# Altium footprint library stm32c8t6.PcbLib: 17 footprints (part 1 of 2)
Each footprint in its own frame and in the unit in brackets; x right, y up, seen from the top. Pads: shape width x height; smd on the part's side, far side on the other; paste and mask are expansions set on the pad; w line width, h text height; cw(c..) or ccw(c..) is an arc to the next point about the centre after c.
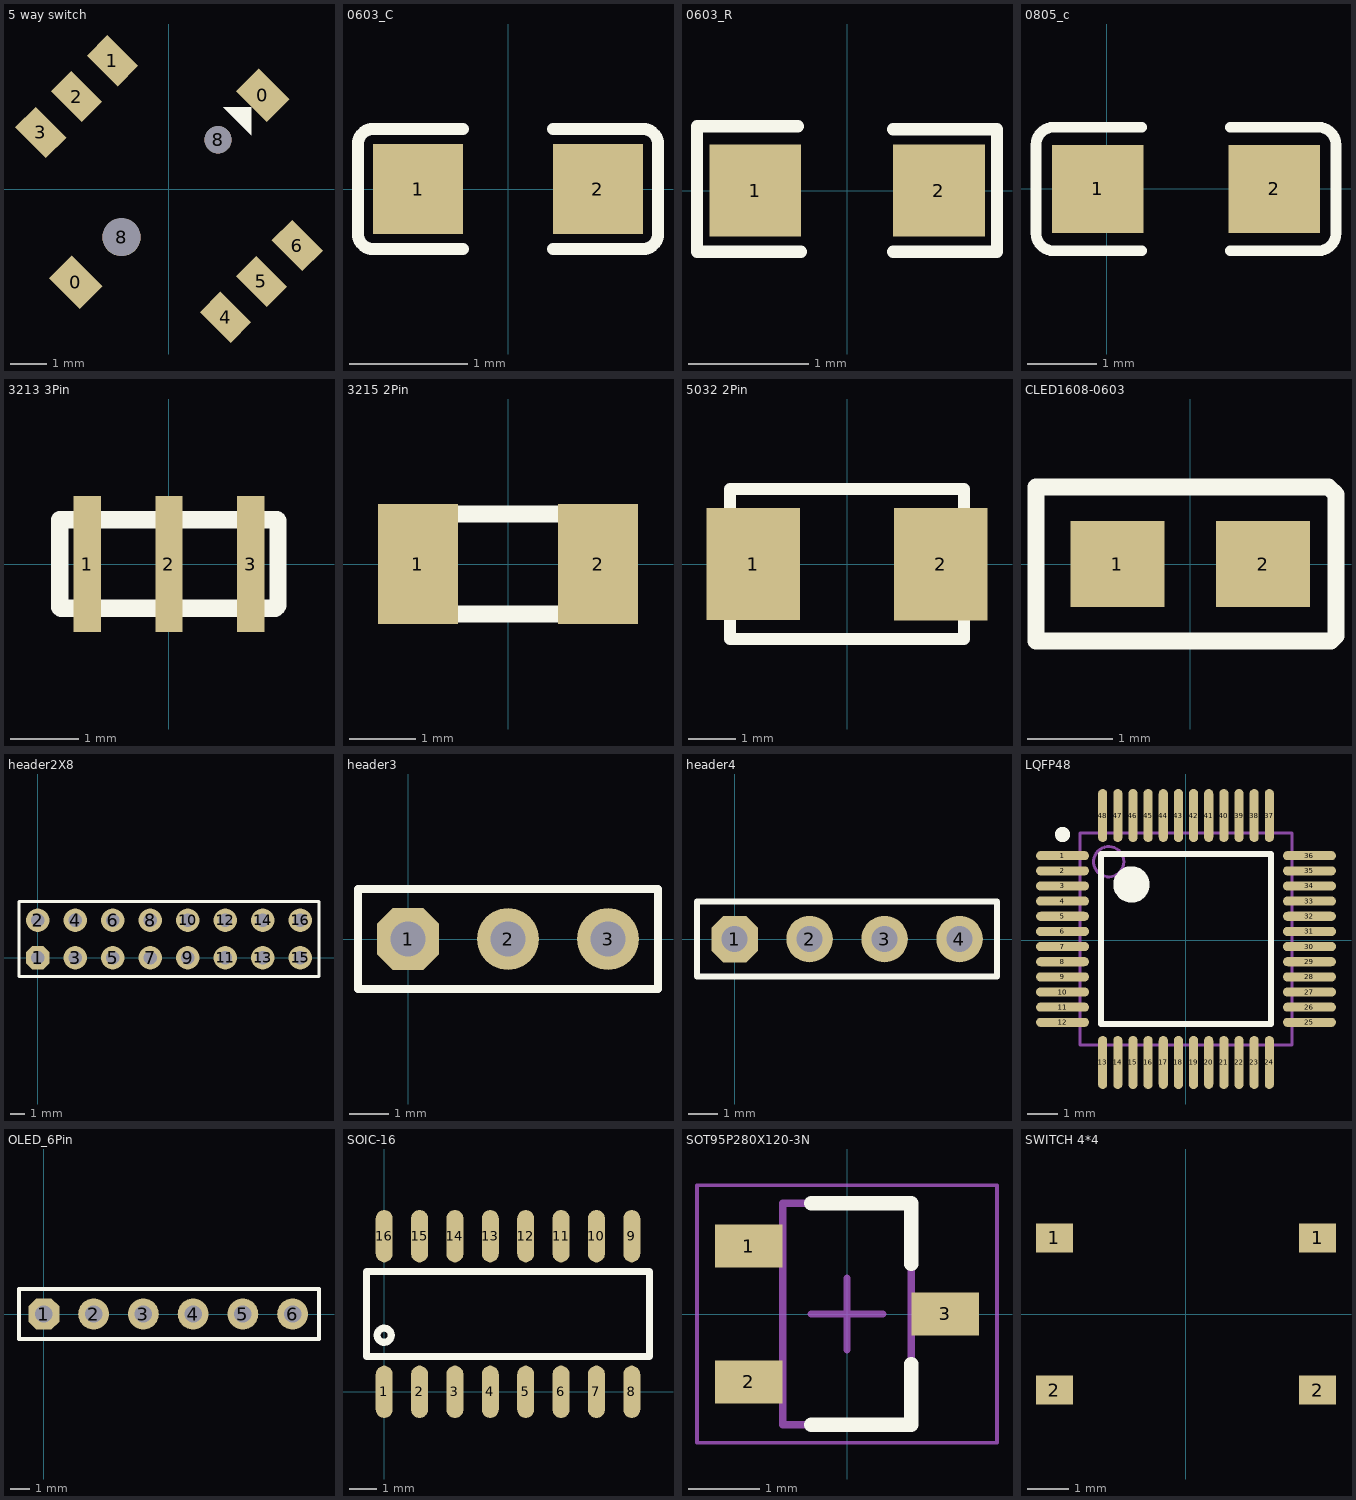
[diagram p0: the footprints below, top view; thin cyan lines are the x and y axes]

## 5 way switch [mm]
pads (10):
  rect 1.2x0.9 smd rot 135: 0(-2.575,-2.575) 0(2.587,2.587)
  rect 1.2x0.8 smd rot 135: 1(-1.56,3.54) 2(-2.55,2.55) 3(-3.54,1.56) 4(1.56,-3.54) 5(2.55,-2.55) 6(3.54,-1.56)
  round 1.05 hole 1.05: 8(-1.31,-1.331)
  round 0.75 hole 0.75: 8(1.354,1.359)
Top Overlay:
  region: 2.276,2.255 1.504,2.255 2.276,1.483
3D body "export.stp": height 4.6, standoff 0.1, extent -5.603,-5.606 5.428,5.425

## 0603_C [mil]
pads (2):
  rect 30x30 smd: 1(-30,0) 2(30,0)
Top Overlay:
  lines w4: -15,-20 -45,-20 cw(c-45,-15) -50,-15 -50,15 cw(c-45,15) -45,20 -15,20 ; 15,-20 45,-20 ccw(c45,-15) 50,-15 50,15 ccw(c45,15) 45,20 15,20
3D body "Capacitor 0603 SMD.step": height 35.04, standoff -0.39, extent -50.67,-18.41 51.69,20.96

## 0603_R [mil]
pads (2):
  rect 30x30 smd: 1(-30,0) 2(30,0)
Top Overlay:
  lines w4: -16,21 -49,21 -49,-20 -15,-20 ; 15,-20 49,-20 49,20 15,20
3D body "R0603.STEP": height 17.72, standoff 0, extent -31.5,-15.75 31.49,15.74

## 0805_c [mil]
pads (2):
  rect 52x50 smd: 1(-5,0) 2(95,0)
Top Overlay:
  lines w6: 20,-35 -30,-35 cw(c-30,-25) -40,-25 -40,25 cw(c-30,25) -30,35 20,35 ; 70,-35 120,-35 ccw(c120,-25) 130,-25 130,25 ccw(c120,25) 120,35 70,35
3D body "Capacitor 0805 SMD.step": height 36.61, standoff -0.39, extent -13.11,-27.56 104.99,27.56

## 3213 3Pin [mm]
pads (3):
  rect 0.4x2 smd: 1(-1.2,0) 2(0,0) 3(1.2,0)
Top Overlay:
  lines w0.254: -1.6,-0.635 -1.6,0.65 1.585,0.65 1.6,0.635 1.6,-0.61 1.56,-0.65 -1.585,-0.65 -1.6,-0.635
3D body "User Library-CSTCE.step": height 0.7, standoff 0, extent -1.6,-0.665 1.6,0.635

## 3215 2Pin [mm]
pads (2):
  rect 1.2x1.8 smd: 1(-1.35,0) 2(1.35,0)
Top Overlay:
  lines w0.254: -1.6,-0.75 -1.6,0.75 1.6,0.75 1.6,-0.75 -1.6,-0.75
3D body "User Library-ABS07.STEP": height 0.91, standoff 0, extent -1.61,-0.76 1.61,0.76

## 5032 2Pin [mm]
pads (2):
  rect 2x2.4 smd: 1(-2,0) 2(2,0)
Top Overlay:
  lines w0.254: -2.5,-1.6 -2.5,1.6 2.5,1.6 2.5,-1.6 -2.5,-1.6
3D body "User Library-ABM3-1.STEP": height 1.3, standoff 0, extent -2.526,-1.575 2.474,1.625

## CLED1608-0603 [mm]
pads (2):
  rect 1.1x1 smd: 1(-0.85,0) 2(0.85,0)
Top Overlay:
  lines w0.2: -1.8,-0.9 -1.8,0.9 1.3,0.9 1.615,0.9 1.702,0.813 1.702,-0.838 1.64,-0.9 1.3,-0.9 -1.8,-0.9
3D body "LED0603.STEP": height 0.6, standoff 0, extent -0.8,-0.4 0.8,0.4

## header2X8 [mil]
pads (16):
  oct 62x62 hole 35: 1(0,0)
  round 62 hole 35: 2(0,100) 3(100,0) 4(100,100) 5(200,0) 6(200,100) 7(300,0) 8(300,100) 9(400,0) 10(400,100) 11(500,0) 12(500,100) 13(600,0) 14(600,100) 15(700,0) 16(700,100)
Top Overlay:
  lines w8: -50,-50 750,-50 750,150 -50,150 -50,-50
3D body "HEADER 8X2.STEP": height 397.64, standoff -59.06, extent -50,-50 750,150

## header3 [mil]
pads (3):
  oct 62x62 hole 35: 1(0,0)
  round 62 hole 35: 2(100,0) 3(200,0)
Top Overlay:
  lines w8: -50,-50 -50,50 250,50 250,-50 -50,-50
3D body "HEADER 3.STEP": height 397.64, standoff -59.06, extent -50,-50 250,50

## header4 [mil]
pads (4):
  oct 62x62 hole 35: 1(0,0)
  round 62 hole 35: 2(100,0) 3(200,0) 4(300,0)
Top Overlay:
  lines w8: -50,-50 -50,50 350,50 350,-50 -50,-50
3D body "HEADER 4.STEP": height 397.64, standoff -59.06, extent -50,-50 350,50

## LQFP48 [mm]
pads (48):
  oval 1.75x0.3 smd: 1(-4.064,2.794) 2(-4.064,2.294) 3(-4.064,1.794) 4(-4.064,1.294) 5(-4.064,0.794) 6(-4.064,0.294) 7(-4.064,-0.206) 8(-4.064,-0.706) 9(-4.064,-1.206) 10(-4.064,-1.706) 11(-4.064,-2.206) 12(-4.064,-2.706) 25(4.086,-2.706) 26(4.086,-2.206) 27(4.086,-1.706) 28(4.086,-1.206) 29(4.086,-0.706) 30(4.086,-0.206) 31(4.086,0.294) 32(4.086,0.794) 33(4.086,1.294) 34(4.086,1.794) 35(4.086,2.294) 36(4.086,2.794)
  oval 0.3x1.75 smd: 13(-2.739,-4.031) 14(-2.239,-4.031) 15(-1.739,-4.031) 16(-1.239,-4.031) 17(-0.739,-4.031) 18(-0.239,-4.031) 19(0.261,-4.031) 20(0.761,-4.031) 21(1.261,-4.031) 22(1.761,-4.031) 23(2.261,-4.031) 24(2.761,-4.031) 37(2.761,4.119) 38(2.261,4.119) 39(1.761,4.119) 40(1.261,4.119) 41(0.761,4.119) 42(0.261,4.119) 43(-0.239,4.119) 44(-0.739,4.119) 45(-1.239,4.119) 46(-1.739,4.119) 47(-2.239,4.119) 48(-2.739,4.119)
Top Overlay:
  circle w0.25: c-4.064,3.494 r0.125
  circle w0.6: c-1.789,1.844 r0.3
  lines w0.2: -2.789,-2.756 -2.789,2.844 2.811,2.844 2.811,-2.756 -2.789,-2.756
Mechanical 13:
  circle w0.1: c-2.539,2.594 r0.5
  lines w0.1: -3.489,-3.456 -3.489,3.544 3.511,3.544 3.511,-3.456 -3.489,-3.456
3D body "LQFP7X7-48.STEP": height 1.56, standoff 0, extent -4.5,-4.436 4.5,4.564

## OLED_6Pin [mil]
pads (6):
  oct 62x62 hole 35: 1(0,0)
  round 62 hole 35: 2(100,0) 3(200,0) 4(300,0) 5(400,0) 6(500,0)
Top Overlay:
  lines w8: -50,-50 -50,50 553,50 553,-50 -50,-50
3D body "User Library-128x64I2COLEDDisplayAdafruit.STEP": height 254.83, standoff -172.17, extent -274.09,-1000.85 777.09,96

## SOIC-16 [mil]
pads (16):
  oval 24x74 smd: 1(0,0) 2(50,0) 3(100,0) 4(150,0) 5(200,0) 6(250,0) 7(300,0) 8(350,0) 9(350,220) 10(300,220) 11(250,220) 12(200,220) 13(150,220) 14(100,220) 15(50,220) 16(0,220)
Top Overlay:
  circle w10: c0,80 r10
  lines w10: -25,50 -25,170 375,170 375,50 -25,50
3D body "User Library-SOIC16-150.STEP": height 68.9, standoff 0, extent -18.83,-5 367,223.35

## SOT95P280X120-3N [mm]
pads (3):
  rect 0.95x0.6 smd: 1(-1.375,0.95) 2(-1.375,-0.95) 3(1.375,0)
Top Overlay:
  lines w0.2: -0.5,-1.55 0.9,-1.55 0.9,-0.7 ; -0.5,1.55 0.9,1.55 0.9,0.7
Mechanical 13:
  lines w0.1: -0.9,-1.55 0.9,-1.55 0.9,1.55 -0.9,1.55 -0.9,-1.55
Mechanical 15:
  lines w0.05: -2.1,-1.8 2.1,-1.8 2.1,1.8 -2.1,1.8 -2.1,-1.8
  lines w0.1: -0.5,0 0.5,0 ; 0,-0.5 0,0.5
3D body "CircuitWorks-SOT-23.step": height 1.1, standoff 0, extent -1.25,-1.5 1.25,1.5

## SWITCH 4*4 [mm]
pads (4):
  rect 0.9x0.7 smd: 1(-3.2,1.85) 1(3.2,1.85) 2(-3.2,-1.85) 2(3.2,-1.85)
3D body "43439.stp": height 1.5, standoff 0, extent -3.2,-2.609 3.2,2.591